# Altium schematic symbol library EE311_symbols.SchLib: 26 symbols
Pins are listed as number, name and electrical type; pins without a type are passive.

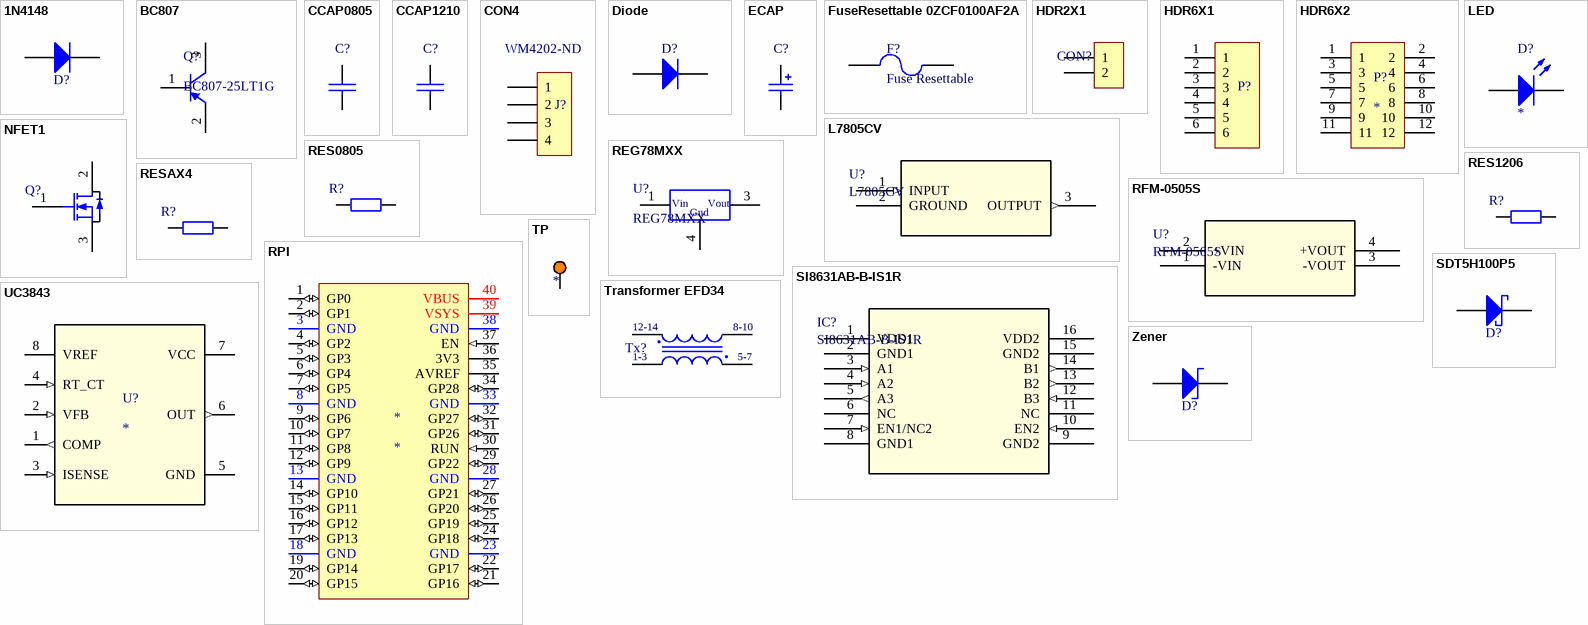
[diagram p0: symbols 1N4148 to Zener]

## 1N4148
designator D?
Signal Diode - 1N4148; Supplier 1: Digi-Key; Supplier Part Number 1: 1N4148WTCT-ND
footprint SOD123 (SODFL, 2-Leads, Body 1.60x3.50mm, IPC Low Density)
pins: 1, 2

## BC807
designator Q?, comment BC807-25LT1G
General Purpose Transistor, PNP Silicon, 3-Pin SOT-23, Pb-Free, Tape and Reel; Manufacturer: On Semiconductor; IC Continuous (A): -0.5; fT Min (MHz): 100; PackageDescription: 3-Pin Small Outline Transistor, Body 2.92 x 1.3 mm, Pitch 0.95 mm; Polarity: PNP; ComponentLink2URL: http://www.onsemi.com/pub_link/Collateral/BC807-16LT1-D.PDF; PackageReference: SOT-23-3-318-08; ComponentLink2Description: Datasheet; ComponentLink1Description: Manufacturer URL; PartNumber: BC807-25LT1G; ComponentLink3URL: http://www.onsemi.cn/pub_link/Collateral/318-08.PDF; Packing: Tape and Reel; DatasheetVersion: Rev. 10; RoHS: TRUE; ComponentLink3Description: Package Specification; PackageVersion: Rev. AP, 11/2009; ComponentLink1URL: http://www.onsemi.com/; Mounting Technology: Surface Mount
footprint SOT23SM (SOT23 Medium Intensity)
pins: 1 B, 2 E, 3 C

## CCAP0805
designator C?, comment Capacitor 0805  (value not drawn)
CCAP0805
footprint C0805
pins: 1, 2

## CCAP1210
designator C?  (value not drawn)
footprint C1210
pins: 1, 2

## CON4
designator J?  Supplier Part Number 2: WM4202-ND
Supplier 1: Digi-Key; Supplier 2: Digi-Key; Digikey: 609-3810-ND; Supplier Part Number 1: 277-1208-ND
footprint 4 Pin Header (0.1" 4 pin header)
footprint 4 Pin Header keyed (0.1" 4 pin header)
pins: 1, 2, 3, 4

## Diode
designator D?
Diode
footprint SOD223
footprint DAX4
footprint C1210
footprint TO277 (PowerDI Package)
footprint SMA (Molded Diode, 2-Leads, Body 5.20x2.65mm, IPC Low Density)
pins: 1, 2

## ECAP
designator C?  (value not drawn)
footprint CR05
footprint CR015
footprint CR075
pins: 1, 2

## FuseResettable 0ZCF0100AF2A
designator F?, comment Fuse Resettable
PTC RESET FUSE 60V 1A 2920; MPN: 0ZCF0100AF2A; Manufacturer: Bel Fuse Inc.; Type: Surface mount; Value: 60V/1A; Part Description: PTC RESET FUSE 60V 1A 2920; Supplier Part Number 2: 530-0ZCF0100AF2A; Supplier Part Number 1: 507-2070-1-ND; Supplier 2: Mouser; Supplier 1: Digi-Key
footprint 0ZCF Series (0ZCF Series SMD Reset Fuse)
pins: 1, 2

## HDR2X1
designator CON?, comment Header 2X1  (value not drawn)
footprint HDR2X1_5
footprint HDR2X1_2P54 (Polarised Header 2 way)
pins: 1, 2

## HDR6X1
designator P?, comment Header 6X1  (value not drawn)
Header, 6-Pin; LatestRevisionDate: 17-Jul-2002; LatestRevisionNote: Re-released for DXP Platform.; Publisher: Altium Limited
footprint HDR6X1_2P54 (Connector for BLE)
pins: 1, 2, 3, 4, 5, 6

## HDR6X2
designator P?
pins: 1, 2, 3, 4, 5, 6, 7, 8, 9, 10, 11, 12

## L7805CV
designator U?
No Description Available; Built_By: EMA_UL_Team; Vendor: STMicroelectronics; SourceLibrary: Updates_to_database_2020-11-10; Manufacturer_Part_Number: L7805CV; Copyright: Copyright (C) 2018 Accelerated Designs. All rights reserved; RefDes: RefDes; Type: DEV
footprint TO-220_STM
pins: 1 INPUT (in), 2 GROUND, 3 OUTPUT (out)

## LED
designator D?
LED
footprint LED0805
pins: 1 A, 2 K

## NFET1
designator Q?, comment MOSFET  (value not drawn)
NFET TO220
footprint TO220 (FM, 3-Leads, Body 10.03x8.98mm, Pitch 2.54mm)
pins: 1 G, 2 D, 3 S

## REG78MXX
designator U?
78M Series Linear Regulators
footprint TO252 (D-PAK, 4-Leads, Body 6.1x6.5mm, Pitch 2.28mm, Lead Span 9.7mm, IPC Low Density)
footprint TO220_Reg (FM, 3-Leads, Body 10.03x8.98mm, Pitch 2.54mm)
pins: 1 Vin, 3 Vout, 4 Gnd

## RES0805
designator R?, comment Resistor 0805  (value not drawn)
RES0805
footprint R0805
pins: 1, 2

## RES1206
designator R?, comment Resistor 1206  (value not drawn)
RES1206
footprint R1206 (Chip Resistor, 2-Leads, Body 3.20x1.60mm, IPC Low Density)
pins: 1, 2

## RESAX4
designator R?, comment Resistor  (value not drawn)
Axial Resistor
footprint RAX4
pins: 1, 2

## RFM-0505S
designator U?
No Description Available; Vendor: Recom Power; Built_By: EMA_Cory; SourceLibrary: Recom_Power_2020-01-16; Manufacturer_Part_Number: RFM-0505S; Copyright: Copyright (C) 2018 Accelerated Designs. All rights reserved; RefDes: RefDes; Type: DEV
footprint RFM-0505S_RCP
pins: 1 -VIN, 2 +VIN (power), 3 -VOUT, 4 +VOUT (power)

## RPI
designator *
footprint RPI-PICO-MOD (RASPBERRY PI PICO RP2040 BOARD)
pins: 1 GP0 (io), 2 GP1 (io), 3 GND (power), 4 GP2 (io), 5 GP3 (io), 6 GP4 (io), 7 GP5 (io), 8 GND (power), 9 GP6 (io), 10 GP7 (io), 11 GP8 (io), 12 GP9 (io), 13 GND (power), 14 GP10 (io), 15 GP11 (io), 16 GP12 (io), 17 GP13 (io), 18 GND (power), 19 GP14 (io), 20 GP15 (io), 21 GP16 (io), 22 GP17 (io), 23 GND (power), 24 GP18 (io), 25 GP19 (io), 26 GP20 (io), 27 GP21 (io), 28 GND (power), 29 GP22 (io), 30 RUN (in), 31 GP26 (io), 32 GP27 (io), 33 GND (power), 34 GP28 (io), 35 AVREF (power), 36 3V3 (power), 37 EN (in), 38 GND (power), 39 VSYS (power), 40 VBUS (power)

## SDT5H100P5
designator D?
Schottky Diode
footprint PowerDI5
pins: 1 A, 3 K

## SI8631AB-B-IS1R
designator IC?
No Description Available; SourceLibrary: Silicon_Labs_2020-10-01; Vendor: Silicon Labs; Datasheet: https://www.silabs.com/documents/public/data-sheets/si86xx-1Mbps-datasheet.pdf; Copyright: Copyright (C) 2018 Accelerated Designs. All rights reserved; Manufacturer_Part_Number: SI8631AB-B-IS1R; RefDes: RefDes; Type: DEV
footprint SOIC16
pins: 1 VDD1 (power), 2 GND1, 3 A1 (in), 4 A2 (in), 5 A3 (out), 6 NC, 7 EN1/NC2 (in), 8 GND1, 9 GND2, 10 EN2 (in), 11 NC, 12 B3 (in), 13 B2 (out), 14 B1 (out), 15 GND2, 16 VDD2 (power)

## TP
designator TP?
Testpoint
footprint Testpoint - 1.6mm
footprint Testpoint - SMD-Compact
footprint Testpoint - 1mm
pins: 1

## Transformer EFD34
designator Tx?, comment Inductor  (value not drawn)
Inductor with core
footprint ETD34
pins: 1, 2, 3, 5, 6, 7, 8, 9, 10, 12, 13, 14
text: 12-14; 8-10; 1-3; 5-7

## UC3843
designator U?
No Description Available; PartNumber: UC3843N; Manufacturer: Texas Instruments; RefDes: RefDes; Type: DEV; Value: Value; Copyright: Copyright (C) 2018 Accelerated Designs. All rights reserved
footprint DIP-8 (DIP, 8-Leads, Body 10.15x6.6mm, Pitch 2.54mm)
pins: 1 COMP (out), 2 VFB (in), 3 ISENSE (in), 4 RT_CT (in), 5 GND (power), 6 OUT (out), 7 VCC (power), 8 VREF (power)

## Zener
designator D?
Zener Diode
footprint SOD123 (SODFL, 2-Leads, Body 1.60x3.50mm, IPC Low Density)
footprint DAX4
pins: 1 A, 2 K